# Altium footprint library 6LT400-5-1-1PCBb.PcbLib: 39 footprints (part 3 of 3)
Each footprint in its own frame and in the unit in brackets; x right, y up, seen from the top. Pads: shape width x height; smd on the part's side, far side on the other; paste and mask are expansions set on the pad; w line width, h text height; cw(c..) or ccw(c..) is an arc to the next point about the centre after c.
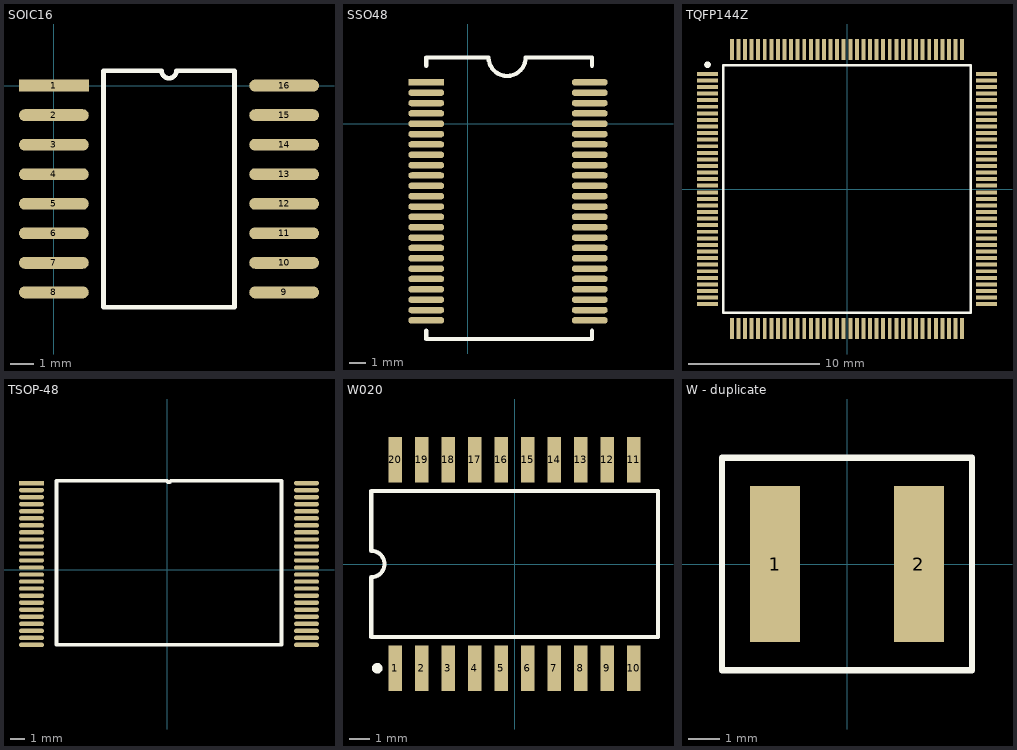
[diagram p2: the footprints below, top view; thin cyan lines are the x and y axes]

## SOIC16 [mm]
pads (16):
  rect 3x0.51 smd: 1(0,0)
  oval 3x0.51 smd: 2(0,-1.27) 3(0,-2.54) 4(0,-3.81) 5(0,-5.08) 6(0,-6.35) 7(0,-7.62) 8(0,-8.89) 9(9.9,-8.89) 10(9.9,-7.62) 11(9.9,-6.35) 12(9.9,-5.08) 13(9.9,-3.81) 14(9.9,-2.54) 15(9.9,-1.27) 16(9.9,0)
Top Overlay:
  lines w0.2: 2.135,-9.525 2.135,0.635 4.632,0.635 ccw(c4.95,0.635) 5.267,0.635 7.765,0.635 7.765,-9.525 2.135,-9.525

## SSO48 [mm]
pads (48):
  rect 2.2x0.4 smd: 1(-2.54,2.54)
  oval 2.2x0.4 smd: 2(-2.54,1.905) 3(-2.54,1.27) 4(-2.54,0.635) 5(-2.54,0) 6(-2.54,-0.635) 7(-2.54,-1.27) 8(-2.54,-1.905) 9(-2.54,-2.54) 10(-2.54,-3.175) 11(-2.54,-3.81) 12(-2.54,-4.445) 13(-2.54,-5.08) 14(-2.54,-5.715) 15(-2.54,-6.35) 16(-2.54,-6.985) 17(-2.54,-7.62) 18(-2.54,-8.255) 19(-2.54,-8.89) 20(-2.54,-9.525) 21(-2.54,-10.16) 22(-2.54,-10.795) 23(-2.54,-11.43) 24(-2.54,-12.065) 25(7.493,-12.065) 26(7.493,-11.43) 27(7.493,-10.795) 28(7.493,-10.16) 29(7.493,-9.525) 30(7.493,-8.89) 31(7.493,-8.255) 32(7.493,-7.62) 33(7.493,-6.985) 34(7.493,-6.35) 35(7.493,-5.715) 36(7.493,-5.08) 37(7.493,-4.445) 38(7.493,-3.81) 39(7.493,-3.175) 40(7.493,-2.54) 41(7.493,-1.905) 42(7.493,-1.27) 43(7.493,-0.635) 44(7.493,0) 45(7.493,0.635) 46(7.493,1.27) 47(7.493,1.905) 48(7.493,2.54)
Top Overlay:
  lines w0.254: -2.54,-12.7 -2.54,-13.208 7.62,-13.208 7.62,-12.7 ; -2.54,3.556 -2.54,4.064 1.284,4.064 ccw(c2.42,4.064) 3.556,4.064 7.62,4.064 7.62,3.556

## TQFP144Z [mm]
pads (144):
  rect 1.6x0.3 smd: 1(-10.62,8.768) 2(-10.62,8.268) 3(-10.62,7.768) 4(-10.62,7.268) 5(-10.62,6.768) 6(-10.62,6.268) 7(-10.62,5.768) 8(-10.62,5.268) 9(-10.62,4.768) 10(-10.62,4.268) 11(-10.62,3.768) 12(-10.62,3.268) 13(-10.62,2.768) 14(-10.62,2.268) 15(-10.62,1.768) 16(-10.62,1.268) 17(-10.62,0.768) 18(-10.62,0.268) 19(-10.62,-0.232) 20(-10.62,-0.732) 21(-10.62,-1.232) 22(-10.62,-1.732) 23(-10.62,-2.232) 24(-10.62,-2.732) 25(-10.62,-3.232) 26(-10.62,-3.732) 27(-10.62,-4.232) 28(-10.62,-4.732) 29(-10.62,-5.232) 30(-10.62,-5.732) 31(-10.62,-6.232) 32(-10.62,-6.732) 33(-10.62,-7.232) 34(-10.62,-7.732) 35(-10.62,-8.232) 36(-10.62,-8.732) 73(10.58,-8.732) 74(10.58,-8.232) 75(10.58,-7.732) 76(10.58,-7.232) 77(10.58,-6.732) 78(10.58,-6.232) 79(10.58,-5.732) 80(10.58,-5.232) 81(10.58,-4.732) 82(10.58,-4.232) 83(10.58,-3.732) 84(10.58,-3.232) 85(10.58,-2.732) 86(10.58,-2.232) 87(10.58,-1.732) 88(10.58,-1.232) 89(10.58,-0.732) 90(10.58,-0.232) 91(10.58,0.268) 92(10.58,0.768) 93(10.58,1.268) 94(10.58,1.768) 95(10.58,2.268) 96(10.58,2.768) 97(10.58,3.268) 98(10.58,3.768) 99(10.58,4.268) 100(10.58,4.768) 101(10.58,5.268) 102(10.58,5.768) 103(10.58,6.268) 104(10.58,6.768) 105(10.58,7.268) 106(10.58,7.768) 107(10.58,8.268) 108(10.58,8.768)
  rect 0.3x1.6 smd: 37(-8.77,-10.582) 38(-8.27,-10.582) 39(-7.77,-10.582) 40(-7.27,-10.582) 41(-6.77,-10.582) 42(-6.27,-10.582) 43(-5.77,-10.582) 44(-5.27,-10.582) 45(-4.77,-10.582) 46(-4.27,-10.582) 47(-3.77,-10.582) 48(-3.27,-10.582) 49(-2.77,-10.582) 50(-2.27,-10.582) 51(-1.77,-10.582) 52(-1.27,-10.582) 53(-0.77,-10.582) 54(-0.27,-10.582) 55(0.23,-10.582) 56(0.73,-10.582) 57(1.23,-10.582) 58(1.73,-10.582) 59(2.23,-10.582) 60(2.73,-10.582) 61(3.23,-10.582) 62(3.73,-10.582) 63(4.23,-10.582) 64(4.73,-10.582) 65(5.23,-10.582) 66(5.73,-10.582) 67(6.23,-10.582) 68(6.73,-10.582) 69(7.23,-10.582) 70(7.73,-10.582) 71(8.23,-10.582) 72(8.73,-10.582) 109(8.73,10.618) 110(8.23,10.618) 111(7.73,10.618) 112(7.23,10.618) 113(6.73,10.618) 114(6.23,10.618) 115(5.73,10.618) 116(5.23,10.618) 117(4.73,10.618) 118(4.23,10.618) 119(3.73,10.618) 120(3.23,10.618) 121(2.73,10.618) 122(2.23,10.618) 123(1.73,10.618) 124(1.23,10.618) 125(0.73,10.618) 126(0.23,10.618) 127(-0.27,10.618) 128(-0.77,10.618) 129(-1.27,10.618) 130(-1.77,10.618) 131(-2.27,10.618) 132(-2.77,10.618) 133(-3.27,10.618) 134(-3.77,10.618) 135(-4.27,10.618) 136(-4.77,10.618) 137(-5.27,10.618) 138(-5.77,10.618) 139(-6.27,10.618) 140(-6.77,10.618) 141(-7.27,10.618) 142(-7.77,10.618) 143(-8.27,10.618) 144(-8.77,10.618)
Top Overlay:
  circle w0.25: c-10.62,9.468 r0.125
  lines w0.2: -9.42,-9.382 -9.42,9.418 9.38,9.418 9.38,-9.382 -9.42,-9.382

## TSOP-48 [mil]
pads (48):
  rect 70x12 smd: 1(-380,242.75)
  oval 70x12 smd: 2(-380,223.07) 3(-380,203.38) 4(-380,183.7) 5(-380,164.01) 6(-380,144.33) 7(-380,124.64) 8(-380,104.96) 9(-380,85.28) 10(-380,65.59) 11(-380,45.91) 12(-380,26.22) 13(-380,6.54) 14(-380,-13.15) 15(-380,-32.84) 16(-380,-52.52) 17(-380,-72.2) 18(-380,-91.89) 19(-380,-111.58) 20(-380,-131.26) 21(-380,-150.94) 22(-380,-170.63) 23(-380,-190.31) 24(-380,-210) 25(390,-210) 26(390,-190.31) 27(390,-170.63) 28(390,-150.94) 29(390,-131.26) 30(390,-111.58) 31(390,-91.89) 32(390,-72.2) 33(390,-52.52) 34(390,-32.84) 35(390,-13.15) 36(390,6.54) 37(390,26.22) 38(390,45.91) 39(390,65.59) 40(390,85.28) 41(390,104.96) 42(390,124.64) 43(390,144.33) 44(390,164.01) 45(390,183.7) 46(390,203.38) 47(390,223.07) 48(390,242.75)
Top Overlay:
  lines w10: -310,-210 -310,250 0,250 ccw(c4.92,250) 9.84,250 320,250 320,-210 -310,-210

## W [mm]

## W020 [mm]
pads (20):
  rect 0.65x2.2 smd: 1(-5.722,-4.994) 2(-4.452,-4.994) 3(-3.182,-4.994) 4(-1.912,-4.994) 5(-0.642,-4.994) 6(0.628,-4.994) 7(1.898,-4.994) 8(3.168,-4.994) 9(4.438,-4.994) 10(5.708,-4.994) 11(5.708,5.006) 12(4.438,5.006) 13(3.168,5.006) 14(1.898,5.006) 15(0.628,5.006) 16(-0.642,5.006) 17(-1.912,5.006) 18(-3.182,5.006) 19(-4.452,5.006) 20(-5.722,5.006)
Top Overlay:
  circle w0.25: c-6.597,-4.994 r0.125
  lines w0.2: -6.882,-3.494 6.868,-3.494 6.868,3.506 -6.882,3.506 -6.882,0.641 cw(c-6.882,0.006) -6.882,-0.629 -6.882,-3.494

## W - duplicate [mm]
pads (2):
  rect 1.6x5 smd: 1(-2.3,0) 2(2.3,0)
Top Overlay:
  lines w0.2: -4,-3.4 4,-3.4 4,3.4 -4,3.4 -4,0 -4,-3.4